# Altium footprint library MLACH_obsolete.PCBLIB: 154 footprints (part 10 of 10)
Each footprint in its own frame and in the unit in brackets; x right, y up, seen from the top. Pads: shape width x height; smd on the part's side, far side on the other; paste and mask are expansions set on the pad; w line width, h text height; cw(c..) or ccw(c..) is an arc to the next point about the centre after c.
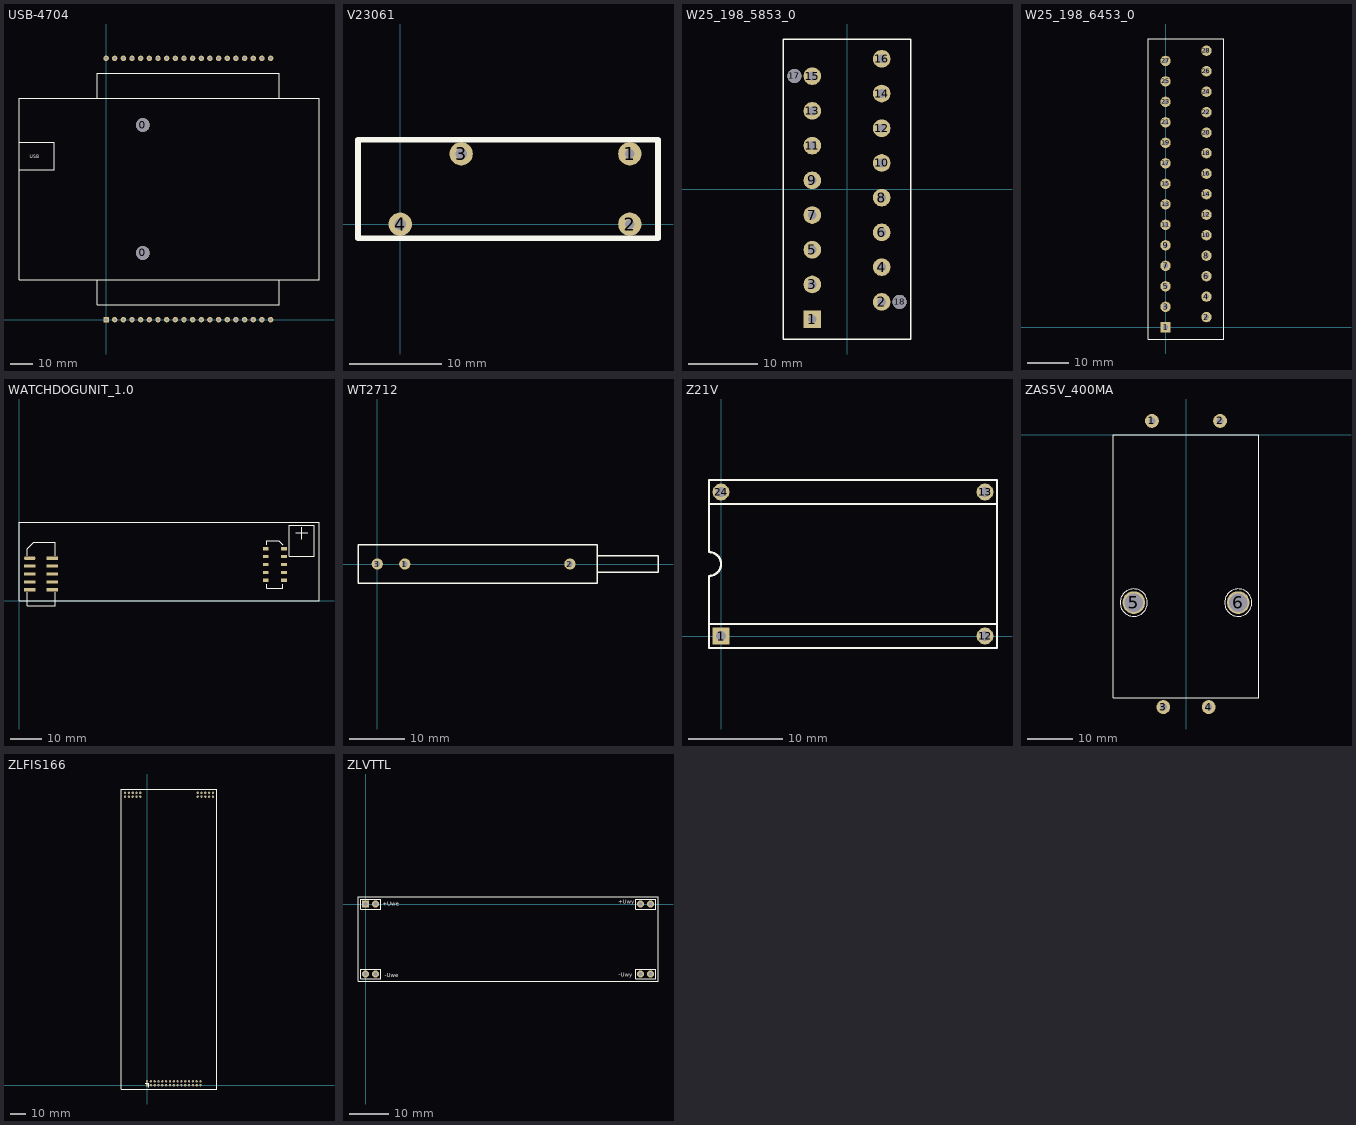
[diagram p9: the footprints below, top view; thin cyan lines are the x and y axes]

## USB-4704 [mm]
pads (42):
  round 6 hole 6: 0(16.2,29.35) 0(16.2,85.65)
  rect 2.4x2.4 hole 1.2: 1(0,0)
  round 2.4 hole 1.2: 2(3.81,0) 3(7.62,0) 4(11.43,0) 5(15.24,0) 6(19.05,0) 7(22.86,0) 8(26.67,0) 9(30.48,0) 10(34.29,0) 11(38.1,0) 12(41.91,0) 13(45.72,0) 14(49.53,0) 15(53.34,0) 16(57.15,0) 17(60.96,0) 18(64.77,0) 19(68.58,0) 20(72.39,0) 21(72.39,115) 22(68.58,115) 23(64.77,115) 24(60.96,115) 25(57.15,115) 26(53.34,115) 27(49.53,115) 28(45.72,115) 29(41.91,115) 30(38.1,115) 31(34.29,115) 32(30.48,115) 33(26.67,115) 34(22.86,115) 35(19.05,115) 36(15.24,115) 37(11.43,115) 38(7.62,115) 39(3.81,115) 40(0,115)
TopOverlay:
  lines w0.254: -38.1,66.04 -22.86,66.04 -22.86,78.105 -38.1,78.105 ; -3.775,17.5 -3.775,6.5 76.2,6.5 76.2,17.5 ; -3.775,97.5 -3.775,108.5 76.2,108.5 76.2,97.5 ; -38.3,17.5 -38.3,97.5 93.7,97.5 93.7,17.5 -38.3,17.5
  text "USB" at -33.655,71.12 h1.52
3D body: height 12, standoff 0, extent -3.775,97.5 76.2,108.5
3D body: height 32, standoff 0, extent -38.3,17.5 93.7,97.5
3D body: height 12, standoff 0, extent -3.775,6.5 76.2,17.5

## V23061 [mil]
pads (4):
  round 100 hole 40: 1(980,300) 2(980,0)
  round 100 hole 50: 3(260,300) 4(0,0)
TopOverlay:
  lines w25: -180,-60 1100,-60 1100,300 1100,360 -100,360 -180,360 -180,-60

## W25_198_5853_0 [mm]
pads (18):
  rect 2.54x2.54 hole 1.27: 1(-5,-18.75)
  round 2.54 hole 1.27: 2(5,-16.25) 3(-5,-13.75) 4(5,-11.25) 5(-5,-8.75) 6(5,-6.25) 7(-5,-3.75) 8(5,-1.25) 9(-5,1.25) 10(5,3.75) 11(-5,6.25) 12(5,8.75) 13(-5,11.25) 14(5,13.75) 15(-5,16.25) 16(5,18.75)
  round 2.032 hole 2.032: 17(-7.575,16.275) 18(7.575,-16.25)
TopOverlay:
  lines w0.203: -9.2,-21.6 9.2,-21.6 9.2,21.6 -9.2,21.6 -9.2,-21.6

## W25_198_6453_0 [mm]
pads (28):
  rect 2.54x2.54 hole 1.27: 1(0,0)
  round 2.54 hole 1.27: 2(10,2.5) 3(0,5) 4(10,7.5) 5(0,10) 6(10,12.5) 7(0,15) 8(10,17.5) 9(0,20) 10(10,22.5) 11(0,25) 12(10,27.5) 13(0,30) 14(10,32.5) 15(0,35) 16(10,37.5) 17(0,40) 18(10,42.5) 19(0,45) 20(10,47.5) 21(0,50) 22(10,52.5) 23(0,55) 24(10,57.5) 25(0,60) 26(10,62.5) 27(0,65) 28(10,67.5)
TopOverlay:
  lines w0.203: -4.2,-2.85 14.2,-2.85 14.2,70.35 -4.2,70.35 -4.2,-2.85

## WATCHDOGUNIT_1.0 [mil]
pads (20):
  rect 75x40 smd: 1(3354.17,660) 2(3125.83,660) 3(3354.17,560) 4(3125.83,560) 5(3354.17,460) 6(3125.83,460) 7(3354.17,360) 8(3125.83,360) 9(3354.17,260) 10(3125.83,260)
  oct 147.64x39.37 smd: 11(137.28,540)
  rect 147.64x39.37 smd: 12(422.72,540) 13(137.28,440) 14(422.72,440) 15(137.28,340) 16(422.72,340) 17(137.28,240) 18(422.72,240) 19(137.28,140) 20(422.72,140)
TopOverlay:
  lines w10: 102.83,107.72 102.83,-61.57 457.17,-61.57 457.17,107.72 ; 102.83,572.28 102.83,658.9 185.51,741.57 457.17,741.57 457.17,572.28 ; 3140,210 3140,160 3340,160 3340,210 ; 3140,710 3140,760 3290,760 3340,710 ; 3505,860 3655,860 ; 3580,780 3580,935 ; 0,0 0,995 3800,995 3800,0 0,0 ; 3423,565 3423,958 3737,958 3737,565 3423,565

## WT2712 [mil]
pads (3):
  round 80 hole 40: 1(196.85,0) 2(1377.95,0) 3(0,0)
TopOverlay:
  lines w10: 1574.8,-59.05 2007.87,-59.05 2007.87,59.05 1574.8,59.05 ; -137.79,-137.79 -137.79,137.79 1574.8,137.79 1574.8,-137.79 -137.79,-137.79

## Z21V [mil]
pads (4):
  rect 70x70 hole 40: 1(0,0)
  round 70 hole 40: 12(1100,0) 13(1100,600) 24(0,600)
TopOverlay:
  lines w8: -50,250 -50,50 ; -50,350 -50,550 ; -50,50 1150,50 ; -50,50 -50,-50 1150,-50 1150,50 ; -50,550 1150,550 ; -50,550 -50,650 1150,650 1150,550 ; 1150,50 1150,550
  lines w10: -50,250 ccw(c-50,300) -50,350

## ZAS5V_400MA [mm]
pads (6):
  round 3.048 hole 1.524: 1(-7.5,3) 2(7.5,3) 3(-5,-60) 4(5,-60)
  round 5 hole 4.064: 5(-11.5,-37) 6(11.5,-37)
TopOverlay:
  circle w0.254: c-11.5,-37 r3
  circle w0.254: c11.5,-37 r3
  lines w0.254: -16,-58 -16,0 16,0 16,-58 -16,-58

## ZLFIS166 [mil]
pads (50):
  rect 60x60 hole 40: 1(0,0)
  round 60 hole 40: 2(0,100) 3(100,0) 4(100,100) 5(200,0) 6(200,100) 7(300,0) 8(300,100) 9(400,0) 10(400,100) 11(500,0) 12(500,100) 13(600,0) 14(600,100) 15(700,0) 16(700,100) 17(800,0) 18(800,100) 19(900,0) 20(900,100) 21(1000,0) 22(1000,100) 23(1100,0) 24(1100,100) 25(1200,0) 26(1200,100) 27(1300,0) 28(1300,100) 29(1400,0) 30(1400,100) 31(-575,7550) 32(-575,7650) 33(-475,7550) 34(-475,7650) 35(-375,7550) 36(-375,7650) 37(-275,7550) 38(-275,7650) 39(-175,7550) 40(-175,7650) 41(1325,7550) 42(1325,7650) 43(1425,7550) 44(1425,7650) 45(1525,7550) 46(1525,7650) 47(1625,7550) 48(1625,7650) 49(1725,7550) 50(1725,7650)
TopOverlay:
  lines w12: -50,50 50,50 50,-50 ; -675,-100 -675,7750 1825,7750 1825,-100 -675,-100

## ZLVTTL [mil]
pads (8):
  rect 70x70 hole 40: 1(0,0)
  round 70 hole 40: 2(100,0) 3(0,-700) 4(100,-700) 5(2750,-700) 6(2850,-700) 7(2750,0) 8(2850,0)
TopOverlay:
  lines w8: -50,-750 150,-750 150,-650 -50,-650 -50,-750 ; -50,-50 -50,50 150,50 150,-50 -50,-50 ; 2700,-750 2700,-650 2900,-650 2900,-750 2700,-750 ; 2700,-50 2700,50 2900,50 2900,-50 2700,-50
  lines w10: -75,-775 2925,-775 2925,75 -75,75 -75,-775
  text "-Uwe" at 190,-730 h40
  text "+Uwe" at 170,-15 h40
  text "-Uwy" at 2530,-725 h40
  text "+Uwy" at 2525,5 h40